# Altium schematic symbol library RoundSensorCon.SchLib: 1 symbol
Pins are listed as number, name and electrical type; pins without a type are passive.

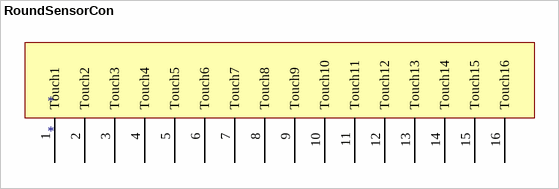
[diagram p0: symbol RoundSensorCon]

## RoundSensorCon
designator *
footprint RoundSensorCon
pins: 1 Touch1, 2 Touch2, 3 Touch3, 4 Touch4, 5 Touch5, 6 Touch6, 7 Touch7, 8 Touch8, 9 Touch9, 10 Touch10, 11 Touch11, 12 Touch12, 13 Touch13, 14 Touch14, 15 Touch15, 16 Touch16